# EAGLE library part FD6288Q (library FD6288Q)
QFN-24 MOS Drivers RoHS Source: Datasheet <https://datasheet.lcsc.com/szlcsc/1811131655_Fortior-Tech-FD6288Q_C328453.pdf>
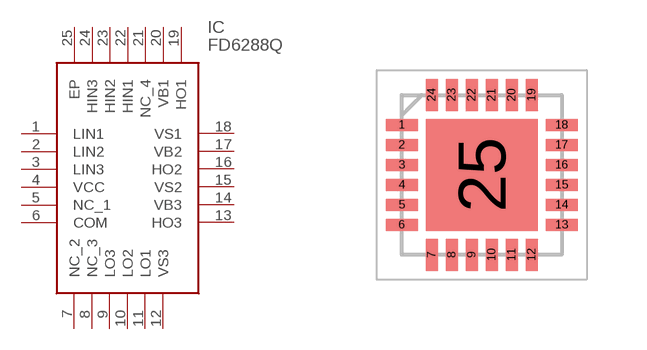
[diagram p0: symbol with the pads of QFN50P400X400X90-25N; footprint QFN50P400X400X90-25N]

Designator prefix IC

## FD6288Q (Description: QFN-24 MOS Drivers RoHS; Height: 0.9mm; Manufacturer_Name: Fortior Tech; Manufacturer_Part_Number: FD6288Q)  [QFN50P400X400X90-25N]
1  LIN1
2  LIN2
3  LIN3
4  VCC
5  NC_1
6  COM
7  NC_2
8  NC_3
9  LO3
10  LO2
11  LO1
12  VS3
13  HO3
14  VB3
15  VS2
16  HO2
17  VB2
18  VS1
19  HO1
20  VB1
21  NC_4
22  HIN1
23  HIN2
24  HIN3
25  EP

## Footprint QFN50P400X400X90-25N (pad centres in mm)
QFN24-
smd 0.8 x 0.3: 1 -2,1.25; 2 -2,0.75; 3 -2,0.25; 4 -2,-0.25; 5 -2,-0.75; 6 -2,-1.25; 13 2,-1.25; 14 2,-0.75; 15 2,-0.25; 16 2,0.25; 17 2,0.75; 18 2,1.25
smd 0.3 x 0.8: 7 -1.25,-2; 8 -0.75,-2; 9 -0.25,-2; 10 0.25,-2; 11 0.75,-2; 12 1.25,-2; 19 1.25,2; 20 0.75,2; 21 0.25,2; 22 -0.25,2; 23 -0.75,2; 24 -1.25,2
smd 2.8 x 2.8: 25 0,0